# EAGLE library part ADXL313WACPZ-RL7 (library Sensor)
ACCEL 0.5-4G I2C/SPI 32LFCSP Manufacturer's datasheet <https://www.analog.com/media/en/technical-documentation/data-sheets/ADXL313.pdf>
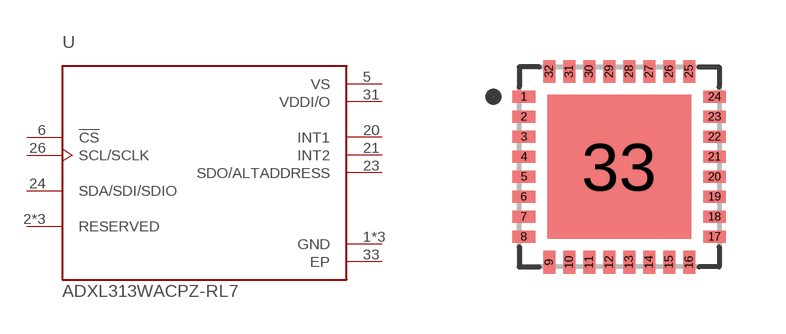
[diagram p19: symbol with the pads of LFCSP-32; footprint LFCSP-32]

Designator prefix U

## ADXL313WACPZ-RL7 (CREATED_BY: PCBLayout.com; DIGIKEY_PN: ADXL313WACPZ-RL7DKR-ND; MANUFACTURER: Analog Devices Inc.; MPN: ADXL313WACPZ-RL7; PACKAGE: LFCSP-32)  [LFCSP-32]
1  GND  pwr
2  RESERVED  pas
3  GND  pwr
4  GND  pwr
5  VS  pwr
6  !CS  in
7  RESERVED  pas
20  INT1  out
21  INT2  out
22  RESERVED  pas
23  SDO/ALTADDRESS  out
24  SDA/SDI/SDIO
26  SCL/SCLK  in
31  VDDI/O  pwr
33  EP  pwr

## Footprint LFCSP-32 (pad centres in mm)
smd 0.57 x 0.3: 1 -2.385,1.75; 2 -2.385,1.25; 3 -2.385,0.75; 4 -2.385,0.25; 5 -2.385,-0.25; 6 -2.385,-0.75; 7 -2.385,-1.25; 8 -2.385,-1.75; 17 2.385,-1.75; 18 2.385,-1.25; 19 2.385,-0.75; 20 2.385,-0.25; 21 2.385,0.25; 22 2.385,0.75; 23 2.385,1.25; 24 2.385,1.75
smd 0.3 x 0.57: 9 -1.75,-2.385; 10 -1.25,-2.385; 11 -0.75,-2.385; 12 -0.25,-2.385; 13 0.25,-2.385; 14 0.75,-2.385; 15 1.25,-2.385; 16 1.75,-2.385; 25 1.75,2.385; 26 1.25,2.385; 27 0.75,2.385; 28 0.25,2.385; 29 -0.25,2.385; 30 -0.75,2.385; 31 -1.25,2.385; 32 -1.75,2.385
smd 3.6 x 3.6: 33 0,0